# Altium footprint library Symbol.PcbLib: 206 footprints (part 2 of 15)
Each footprint in its own frame and in the unit in brackets; x right, y up, seen from the top. Pads: shape width x height; smd on the part's side, far side on the other; paste and mask are expansions set on the pad; w line width, h text height; cw(c..) or ccw(c..) is an arc to the next point about the centre after c.
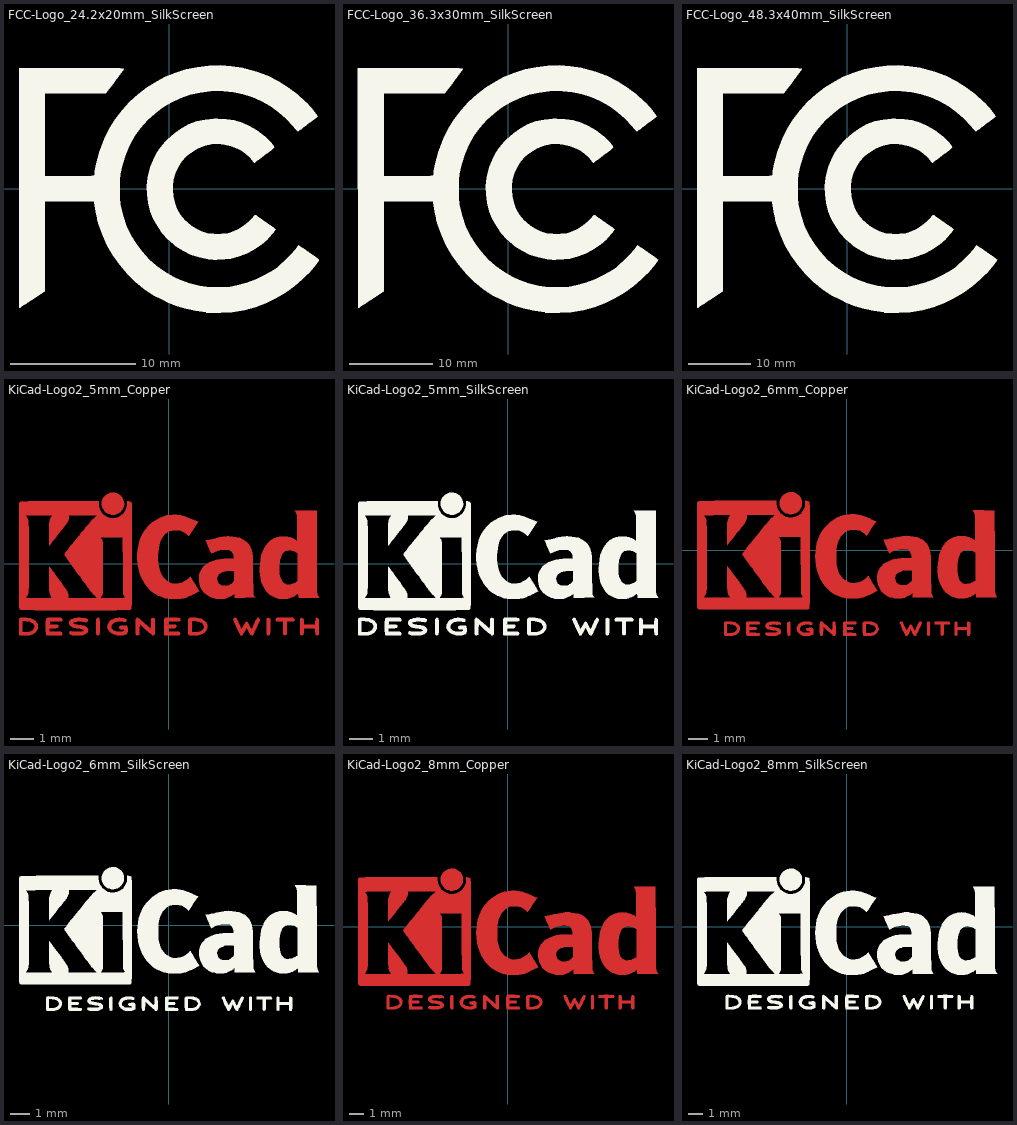
[diagram p1: the footprints below, top view; thin cyan lines are the x and y axes]

## FCC-Logo_24.2x20mm_SilkScreen [mm]
F.SilkS:
  drawing of 2 lines, arcs and shapes, not listed

## FCC-Logo_36.3x30mm_SilkScreen [mm]
F.SilkS:
  drawing of 2 lines, arcs and shapes, not listed

## FCC-Logo_48.3x40mm_SilkScreen [mm]
F.SilkS:
  drawing of 2 lines, arcs and shapes, not listed

## KiCad-Logo2_5mm_Copper [mm]
F.Cu:
  region: 4.189,-2.276 4.212,-2.291 4.239,-2.312 4.239,-2.634 4.239,-2.728 4.239,-2.802 4.238,-2.859 4.236,-2.901 4.234,-2.931 4.231,-2.951 4.227,-2.965 4.221,-2.974 4.217,-2.979 4.186,-3 4.15,-2.999 4.119,-2.981 4.092,-2.96 4.092,-2.312 4.119,-2.291 4.145,-2.275 4.166,-2.269
  region: -2.924,-2.292 -2.917,-2.299 -2.912,-2.309 -2.908,-2.324 -2.905,-2.346 -2.903,-2.378 -2.902,-2.422 -2.902,-2.482 -2.901,-2.56 -2.901,-2.636 -2.901,-2.73 -2.902,-2.804 -2.902,-2.86 -2.904,-2.902 -2.906,-2.932 -2.909,-2.952 -2.913,-2.965 -2.919,-2.974 -2.924,-2.98 -2.957,-3 -2.992,-2.998 -3.023,-2.977 -3.031,-2.968 -3.036,-2.959 -3.041,-2.945 -3.044,-2.924 -3.046,-2.895 -3.047,-2.853 -3.048,-2.796 -3.048,-2.722 -3.048,-2.638 -3.048,-2.324 -3.02,-2.297 -2.986,-2.273 -2.953,-2.273
  region: -2.273,2.973 -2.177,2.949 -2.09,2.906 -2.015,2.847 -1.954,2.772 -1.909,2.683 -1.883,2.586 -1.877,2.489 -1.892,2.395 -1.926,2.307 -1.977,2.228 -2.042,2.16 -2.121,2.106 -2.212,2.068 -2.263,2.056 -2.308,2.048 -2.342,2.045 -2.375,2.047 -2.415,2.054 -2.449,2.061 -2.542,2.092 -2.626,2.143 -2.698,2.213 -2.756,2.298 -2.77,2.326 -2.787,2.362 -2.797,2.392 -2.802,2.425 -2.805,2.466 -2.805,2.512 -2.801,2.596 -2.787,2.665 -2.762,2.726 -2.723,2.784 -2.684,2.829 -2.612,2.895 -2.537,2.94 -2.455,2.967 -2.377,2.977
  region: 4.963,-2.269 5.042,-2.27 5.103,-2.27 5.149,-2.272 5.182,-2.274 5.205,-2.277 5.221,-2.28 5.231,-2.285 5.236,-2.289 5.261,-2.321 5.265,-2.355 5.249,-2.386 5.238,-2.398 5.227,-2.406 5.211,-2.412 5.186,-2.414 5.147,-2.416 5.09,-2.416 4.933,-2.416 4.933,-2.687 4.933,-2.772 4.933,-2.838 4.932,-2.887 4.93,-2.922 4.927,-2.946 4.923,-2.962 4.918,-2.972 4.911,-2.98 4.878,-3 4.843,-2.999 4.812,-2.976 4.81,-2.973 4.802,-2.962 4.797,-2.95 4.793,-2.933 4.79,-2.908 4.788,-2.872 4.787,-2.822 4.787,-2.755 4.786,-2.68 4.786,-2.416 4.647,-2.416 4.587,-2.415 4.546,-2.414 4.519,-2.411 4.502,-2.405 4.49,-2.397 4.489,-2.395 4.473,-2.362 4.474,-2.324 4.493,-2.292 4.5,-2.285 4.51,-2.28 4.524,-2.276 4.545,-2.274 4.575,-2.272 4.618,-2.27 4.676,-2.269 4.75,-2.269 4.844,-2.269 4.864,-2.269
  region: 6.229,-2.275 6.26,-2.297 6.288,-2.324 6.288,-2.634 6.288,-2.726 6.287,-2.798 6.287,-2.853 6.285,-2.893 6.283,-2.922 6.28,-2.942 6.275,-2.956 6.269,-2.967 6.265,-2.973 6.234,-2.998 6.198,-3 6.166,-2.985 6.156,-2.976 6.148,-2.965 6.144,-2.946 6.142,-2.915 6.141,-2.869 6.141,-2.833 6.141,-2.698 5.644,-2.698 5.644,-2.821 5.644,-2.877 5.642,-2.915 5.638,-2.941 5.63,-2.96 5.621,-2.973 5.59,-2.998 5.555,-3.001 5.522,-2.983 5.513,-2.974 5.506,-2.962 5.502,-2.943 5.499,-2.914 5.498,-2.87 5.497,-2.808 5.497,-2.794 5.497,-2.678 5.497,-2.582 5.497,-2.504 5.497,-2.443 5.498,-2.396 5.5,-2.361 5.502,-2.335 5.505,-2.318 5.51,-2.306 5.515,-2.298 5.52,-2.292 5.552,-2.272 5.585,-2.275 5.617,-2.297 5.629,-2.311 5.638,-2.327 5.642,-2.35 5.644,-2.384 5.644,-2.436 5.644,-2.551 6.141,-2.551 6.141,-2.433 6.142,-2.378 6.144,-2.341 6.148,-2.317 6.155,-2.301 6.164,-2.292 6.196,-2.272
  region: 1.018,-2.269 1.147,-2.274 1.257,-2.287 1.349,-2.31 1.426,-2.343 1.489,-2.388 1.539,-2.444 1.58,-2.514 1.58,-2.515 1.605,-2.577 1.613,-2.633 1.606,-2.688 1.584,-2.751 1.579,-2.761 1.55,-2.817 1.517,-2.86 1.475,-2.897 1.417,-2.934 1.414,-2.936 1.364,-2.96 1.307,-2.978 1.24,-2.991 1.159,-2.999 1.06,-3.002 1.025,-3.002 0.86,-3.003 0.836,-2.973 0.829,-2.963 0.824,-2.952 0.82,-2.936 0.817,-2.913 0.815,-2.88 0.814,-2.856 0.814,-2.835 0.813,-2.774 0.813,-2.696 0.813,-2.634 0.813,-2.324 0.841,-2.297 0.853,-2.286 0.866,-2.278 0.885,-2.273 0.913,-2.27 0.955,-2.269 1.015,-2.269 hole: 0.971,-2.416 0.971,-2.856 1.065,-2.856 1.12,-2.854 1.176,-2.85 1.222,-2.844 1.225,-2.844 1.307,-2.822 1.371,-2.789 1.418,-2.743 1.451,-2.683 1.457,-2.667 1.463,-2.642 1.46,-2.618 1.448,-2.585 1.441,-2.569 1.418,-2.527 1.39,-2.497 1.359,-2.477 1.297,-2.45 1.218,-2.43 1.125,-2.419 1.058,-2.416
  region: -6.121,-2.269 -6.082,-2.269 -5.966,-2.272 -5.869,-2.281 -5.788,-2.295 -5.719,-2.317 -5.658,-2.347 -5.604,-2.387 -5.584,-2.404 -5.552,-2.443 -5.523,-2.497 -5.5,-2.557 -5.488,-2.615 -5.486,-2.636 -5.494,-2.695 -5.516,-2.759 -5.547,-2.82 -5.584,-2.868 -5.59,-2.874 -5.641,-2.915 -5.696,-2.947 -5.76,-2.971 -5.834,-2.988 -5.924,-2.998 -6.031,-3.002 -6.08,-3.003 -6.142,-3.003 -6.186,-3.001 -6.215,-2.999 -6.234,-2.994 -6.247,-2.987 -6.254,-2.98 -6.261,-2.973 -6.266,-2.963 -6.27,-2.948 -6.273,-2.926 -6.274,-2.894 -6.276,-2.85 -6.276,-2.79 -6.277,-2.712 -6.277,-2.636 -6.277,-2.535 -6.277,-2.454 -6.276,-2.416 -6.275,-2.392 -6.271,-2.345 -6.263,-2.312 -6.25,-2.29 -6.23,-2.277 -6.203,-2.27 -6.167,-2.269 hole: -6.054,-2.416 -6.13,-2.416 -6.13,-2.856 -6.037,-2.856 -5.981,-2.854 -5.922,-2.85 -5.873,-2.844 -5.872,-2.844 -5.792,-2.825 -5.731,-2.795 -5.684,-2.753 -5.655,-2.707 -5.636,-2.656 -5.638,-2.608 -5.659,-2.557 -5.7,-2.504 -5.758,-2.465 -5.833,-2.438 -5.883,-2.429 -5.939,-2.423 -6,-2.418 -6.051,-2.416
  region: -1.3,-2.273 -1.277,-2.287 -1.246,-2.31 -1.206,-2.342 -1.156,-2.386 -1.094,-2.441 -1.018,-2.509 -0.931,-2.588 -0.751,-2.752 -0.745,-2.532 -0.743,-2.456 -0.741,-2.4 -0.739,-2.36 -0.736,-2.332 -0.731,-2.314 -0.725,-2.303 -0.717,-2.294 -0.713,-2.291 -0.678,-2.272 -0.645,-2.274 -0.619,-2.291 -0.593,-2.312 -0.589,-2.627 -0.588,-2.72 -0.588,-2.793 -0.588,-2.848 -0.589,-2.889 -0.591,-2.919 -0.594,-2.939 -0.598,-2.953 -0.604,-2.964 -0.61,-2.972 -0.623,-2.988 -0.637,-2.999 -0.652,-3.003 -0.671,-2.999 -0.695,-2.987 -0.727,-2.965 -0.768,-2.932 -0.821,-2.887 -0.886,-2.829 -0.96,-2.762 -1.225,-2.521 -1.23,-2.741 -1.233,-2.816 -1.235,-2.872 -1.237,-2.913 -1.24,-2.94 -1.244,-2.958 -1.25,-2.969 -1.259,-2.978 -1.263,-2.981 -1.3,-3 -1.335,-2.997 -1.365,-2.973 -1.372,-2.963 -1.378,-2.952 -1.382,-2.936 -1.385,-2.913 -1.386,-2.88 -1.388,-2.835 -1.388,-2.774 -1.389,-2.694 -1.389,-2.636 -1.388,-2.544 -1.388,-2.473 -1.387,-2.418 -1.386,-2.378 -1.384,-2.349 -1.38,-2.329 -1.376,-2.315 -1.37,-2.305 -1.365,-2.299 -1.354,-2.285 -1.343,-2.274 -1.332,-2.268 -1.318,-2.267
  region: -1.95,-2.275 -1.882,-2.286 -1.829,-2.304 -1.795,-2.327 -1.785,-2.341 -1.776,-2.372 -1.782,-2.4 -1.802,-2.427 -1.834,-2.44 -1.879,-2.439 -1.914,-2.432 -1.992,-2.419 -2.072,-2.418 -2.162,-2.428 -2.186,-2.433 -2.269,-2.456 -2.334,-2.491 -2.38,-2.537 -2.407,-2.592 -2.413,-2.621 -2.409,-2.68 -2.386,-2.732 -2.345,-2.776 -2.288,-2.811 -2.219,-2.837 -2.138,-2.852 -2.048,-2.854 -1.951,-2.845 -1.945,-2.844 -1.907,-2.836 -1.885,-2.83 -1.876,-2.819 -1.874,-2.802 -1.874,-2.793 -1.874,-2.754 -1.942,-2.754 -2.003,-2.75 -2.044,-2.737 -2.068,-2.714 -2.077,-2.679 -2.077,-2.674 -2.072,-2.645 -2.054,-2.623 -2.022,-2.609 -1.972,-2.601 -1.923,-2.598 -1.852,-2.596 -1.801,-2.599 -1.766,-2.609 -1.744,-2.628 -1.733,-2.66 -1.728,-2.708 -1.727,-2.77 -1.729,-2.84 -1.733,-2.887 -1.74,-2.912 -1.741,-2.914 -1.78,-2.946 -1.837,-2.97 -1.909,-2.988 -1.991,-2.999 -2.081,-3.001 -2.175,-2.994 -2.23,-2.986 -2.316,-2.962 -2.396,-2.922 -2.463,-2.87 -2.473,-2.86 -2.506,-2.816 -2.536,-2.762 -2.559,-2.706 -2.572,-2.654 -2.574,-2.635 -2.567,-2.593 -2.55,-2.542 -2.524,-2.488 -2.495,-2.439 -2.469,-2.406 -2.408,-2.357 -2.329,-2.319 -2.235,-2.29 -2.129,-2.274 -2.032,-2.27
  region: 0.23,-2.269 0.307,-2.27 0.365,-2.272 0.408,-2.276 0.438,-2.282 0.457,-2.291 0.468,-2.303 0.473,-2.319 0.474,-2.339 0.474,-2.341 0.473,-2.364 0.468,-2.382 0.457,-2.395 0.437,-2.404 0.406,-2.41 0.36,-2.414 0.298,-2.417 0.216,-2.418 0.191,-2.418 -0.051,-2.421 -0.054,-2.486 -0.058,-2.551 0.111,-2.551 0.176,-2.552 0.223,-2.553 0.255,-2.555 0.276,-2.559 0.289,-2.565 0.299,-2.573 0.316,-2.607 0.316,-2.643 0.297,-2.674 0.294,-2.678 0.281,-2.686 0.263,-2.692 0.237,-2.695 0.197,-2.697 0.142,-2.698 0.106,-2.698 -0.056,-2.698 -0.056,-2.856 0.19,-2.856 0.272,-2.856 0.333,-2.857 0.379,-2.858 0.41,-2.86 0.431,-2.864 0.445,-2.868 0.453,-2.874 0.455,-2.877 0.472,-2.908 0.473,-2.944 0.46,-2.975 0.449,-2.985 0.438,-2.991 0.421,-2.995 0.396,-2.998 0.359,-3 0.308,-3.002 0.24,-3.003 0.153,-3.003 0.133,-3.003 0.045,-3.003 -0.024,-3.002 -0.075,-3.002 -0.113,-3 -0.139,-2.998 -0.156,-2.994 -0.167,-2.989 -0.176,-2.983 -0.18,-2.978 -0.187,-2.97 -0.192,-2.96 -0.196,-2.945 -0.199,-2.923 -0.201,-2.89 -0.202,-2.845 -0.203,-2.785 -0.203,-2.707 -0.203,-2.641 -0.203,-2.549 -0.203,-2.476 -0.202,-2.421 -0.201,-2.38 -0.198,-2.35 -0.195,-2.33 -0.191,-2.316 -0.185,-2.305 -0.18,-2.299 -0.156,-2.269 0.134,-2.269
  region: -4.713,-2.269 -4.643,-2.27 -4.591,-2.27 -4.553,-2.272 -4.526,-2.274 -4.508,-2.278 -4.496,-2.283 -4.487,-2.289 -4.484,-2.292 -4.464,-2.323 -4.46,-2.359 -4.473,-2.391 -4.48,-2.397 -4.489,-2.403 -4.505,-2.408 -4.529,-2.412 -4.566,-2.414 -4.617,-2.416 -4.685,-2.418 -4.748,-2.418 -4.995,-2.421 -4.999,-2.486 -5.002,-2.551 -4.834,-2.551 -4.761,-2.552 -4.708,-2.555 -4.671,-2.56 -4.647,-2.57 -4.634,-2.586 -4.629,-2.607 -4.628,-2.628 -4.631,-2.653 -4.64,-2.671 -4.659,-2.684 -4.691,-2.692 -4.738,-2.696 -4.804,-2.698 -4.84,-2.698 -5.001,-2.698 -5.001,-2.856 -4.753,-2.856 -4.671,-2.856 -4.609,-2.857 -4.564,-2.858 -4.532,-2.86 -4.511,-2.863 -4.496,-2.868 -4.487,-2.874 -4.482,-2.879 -4.465,-2.906 -4.459,-2.929 -4.467,-2.959 -4.482,-2.98 -4.49,-2.987 -4.5,-2.992 -4.515,-2.996 -4.538,-2.999 -4.571,-3.001 -4.618,-3.002 -4.68,-3.003 -4.761,-3.003 -4.803,-3.003 -4.894,-3.003 -4.964,-3.002 -5.017,-3.002 -5.056,-3 -5.083,-2.998 -5.101,-2.994 -5.113,-2.99 -5.122,-2.983 -5.125,-2.98 -5.132,-2.973 -5.137,-2.963 -5.141,-2.948 -5.144,-2.926 -5.146,-2.894 -5.147,-2.849 -5.147,-2.789 -5.148,-2.711 -5.148,-2.638 -5.148,-2.545 -5.147,-2.471 -5.147,-2.415 -5.146,-2.374 -5.144,-2.345 -5.141,-2.325 -5.136,-2.312 -5.131,-2.303 -5.123,-2.295 -5.122,-2.294 -5.113,-2.286 -5.103,-2.28 -5.089,-2.276 -5.067,-2.273 -5.036,-2.271 -4.993,-2.27 -4.934,-2.269 -4.857,-2.269 -4.802,-2.269
  region: 3.745,-2.271 3.764,-2.278 3.765,-2.278 3.792,-2.299 3.806,-2.32 3.809,-2.329 3.809,-2.342 3.805,-2.361 3.796,-2.387 3.782,-2.424 3.761,-2.473 3.732,-2.536 3.695,-2.617 3.675,-2.661 3.639,-2.74 3.604,-2.812 3.574,-2.876 3.548,-2.928 3.528,-2.965 3.516,-2.986 3.513,-2.989 3.482,-3.001 3.447,-3 3.419,-2.984 3.418,-2.983 3.407,-2.966 3.388,-2.933 3.364,-2.888 3.337,-2.836 3.327,-2.817 3.254,-2.67 3.174,-2.829 3.146,-2.884 3.119,-2.932 3.097,-2.969 3.081,-2.991 3.076,-2.996 3.034,-3.002 3,-2.989 2.99,-2.974 2.972,-2.943 2.949,-2.897 2.921,-2.839 2.89,-2.774 2.857,-2.704 2.824,-2.631 2.792,-2.56 2.763,-2.494 2.737,-2.435 2.718,-2.386 2.705,-2.352 2.7,-2.334 2.711,-2.311 2.733,-2.289 2.735,-2.288 2.762,-2.272 2.787,-2.273 2.796,-2.275 2.808,-2.282 2.82,-2.294 2.834,-2.315 2.852,-2.347 2.875,-2.393 2.905,-2.455 2.932,-2.512 2.962,-2.578 2.99,-2.638 3.013,-2.688 3.03,-2.725 3.039,-2.746 3.041,-2.749 3.047,-2.743 3.061,-2.721 3.081,-2.685 3.106,-2.638 3.115,-2.619 3.148,-2.554 3.174,-2.507 3.194,-2.474 3.21,-2.454 3.226,-2.443 3.242,-2.439 3.252,-2.438 3.271,-2.44 3.287,-2.447 3.303,-2.462 3.321,-2.487 3.344,-2.526 3.373,-2.581 3.389,-2.613 3.415,-2.663 3.437,-2.705 3.454,-2.734 3.464,-2.748 3.466,-2.749 3.472,-2.738 3.487,-2.709 3.508,-2.666 3.534,-2.612 3.564,-2.548 3.578,-2.517 3.616,-2.436 3.647,-2.374 3.672,-2.328 3.692,-2.297 3.71,-2.278 3.727,-2.271
  region: -3.692,-2.27 -3.617,-2.276 -3.547,-2.284 -3.487,-2.295 -3.44,-2.308 -3.41,-2.323 -3.406,-2.327 -3.39,-2.362 -3.395,-2.397 -3.419,-2.428 -3.421,-2.429 -3.435,-2.438 -3.45,-2.443 -3.471,-2.443 -3.503,-2.44 -3.552,-2.432 -3.556,-2.432 -3.629,-2.423 -3.707,-2.418 -3.786,-2.418 -3.859,-2.422 -3.922,-2.43 -3.968,-2.443 -3.971,-2.444 -4.005,-2.463 -4.017,-2.482 -4.008,-2.5 -3.978,-2.518 -3.929,-2.535 -3.861,-2.549 -3.816,-2.556 -3.721,-2.57 -3.647,-2.582 -3.588,-2.594 -3.542,-2.608 -3.506,-2.623 -3.476,-2.641 -3.449,-2.664 -3.428,-2.686 -3.403,-2.717 -3.391,-2.743 -3.387,-2.776 -3.387,-2.788 -3.39,-2.828 -3.401,-2.857 -3.421,-2.883 -3.462,-2.924 -3.508,-2.954 -3.562,-2.976 -3.627,-2.991 -3.707,-2.999 -3.805,-3.001 -3.821,-3.001 -3.887,-3 -3.952,-2.997 -4.009,-2.992 -4.052,-2.987 -4.055,-2.987 -4.098,-2.976 -4.134,-2.964 -4.154,-2.952 -4.173,-2.922 -4.174,-2.886 -4.158,-2.854 -4.154,-2.851 -4.139,-2.84 -4.12,-2.835 -4.091,-2.836 -4.056,-2.84 -4.016,-2.844 -3.96,-2.847 -3.895,-2.849 -3.828,-2.85 -3.81,-2.85 -3.742,-2.85 -3.692,-2.849 -3.657,-2.846 -3.63,-2.841 -3.609,-2.834 -3.596,-2.828 -3.568,-2.811 -3.55,-2.796 -3.547,-2.792 -3.553,-2.774 -3.579,-2.757 -3.624,-2.741 -3.687,-2.728 -3.705,-2.725 -3.801,-2.71 -3.878,-2.697 -3.938,-2.686 -3.984,-2.676 -4.021,-2.665 -4.049,-2.653 -4.073,-2.639 -4.096,-2.622 -4.119,-2.601 -4.127,-2.594 -4.155,-2.567 -4.17,-2.545 -4.176,-2.52 -4.177,-2.489 -4.167,-2.428 -4.136,-2.376 -4.085,-2.333 -4.013,-2.3 -3.962,-2.285 -3.907,-2.275 -3.841,-2.27 -3.768,-2.268
  region: 0.328,2.051 0.489,2.03 0.653,1.99 0.822,1.93 1,1.851 1.011,1.845 1.069,1.817 1.121,1.793 1.162,1.775 1.19,1.764 1.2,1.761 1.219,1.756 1.224,1.752 1.218,1.741 1.202,1.715 1.177,1.676 1.145,1.626 1.107,1.569 1.066,1.507 1.023,1.442 0.98,1.379 0.939,1.319 0.902,1.265 0.871,1.22 0.847,1.186 0.832,1.167 0.83,1.165 0.82,1.17 0.798,1.187 0.767,1.214 0.752,1.228 0.655,1.303 0.548,1.359 0.433,1.394 0.31,1.408 0.241,1.407 0.119,1.39 0.01,1.354 -0.087,1.299 -0.174,1.225 -0.249,1.131 -0.314,1.018 -0.351,0.931 -0.395,0.796 -0.428,0.648 -0.448,0.493 -0.458,0.333 -0.456,0.173 -0.443,0.016 -0.419,-0.133 -0.384,-0.271 -0.338,-0.395 -0.322,-0.429 -0.253,-0.543 -0.173,-0.64 -0.081,-0.718 0.02,-0.777 0.13,-0.816 0.247,-0.834 0.289,-0.835 0.41,-0.824 0.531,-0.791 0.649,-0.737 0.762,-0.663 0.854,-0.585 0.9,-0.54 1.081,-0.837 1.127,-0.911 1.168,-0.98 1.204,-1.039 1.233,-1.088 1.254,-1.124 1.265,-1.144 1.266,-1.147 1.258,-1.157 1.233,-1.174 1.193,-1.197 1.142,-1.225 1.084,-1.255 1.021,-1.287 0.958,-1.318 0.896,-1.346 0.839,-1.371 0.791,-1.391 0.768,-1.399 0.634,-1.437 0.496,-1.462 0.349,-1.475 0.222,-1.477 0.154,-1.476 0.088,-1.474 0.031,-1.471 -0.013,-1.468 -0.027,-1.466 -0.166,-1.438 -0.307,-1.392 -0.445,-1.334 -0.572,-1.264 -0.649,-1.211 -0.777,-1.103 -0.895,-0.977 -1.002,-0.835 -1.095,-0.681 -1.173,-0.518 -1.217,-0.401 -1.267,-0.217 -1.301,-0.023 -1.318,0.179 -1.318,0.382 -1.301,0.584 -1.268,0.781 -1.217,0.967 -1.214,0.978 -1.151,1.14 -1.074,1.288 -0.981,1.426 -0.868,1.558 -0.825,1.604 -0.688,1.728 -0.549,1.83 -0.403,1.912 -0.249,1.975 -0.084,2.02 0.011,2.038 0.17,2.054
  region: 6.187,0.528 6.187,0.293 6.187,0.08 6.187,-0.112 6.187,-0.285 6.187,-0.441 6.188,-0.579 6.188,-0.701 6.189,-0.808 6.19,-0.901 6.192,-0.982 6.194,-1.051 6.196,-1.11 6.198,-1.159 6.202,-1.2 6.205,-1.234 6.21,-1.262 6.214,-1.285 6.22,-1.304 6.226,-1.321 6.233,-1.335 6.24,-1.349 6.249,-1.364 6.254,-1.373 6.288,-1.434 5.43,-1.434 5.43,-1.338 5.429,-1.294 5.427,-1.261 5.424,-1.243 5.423,-1.242 5.412,-1.249 5.389,-1.267 5.366,-1.286 5.312,-1.327 5.242,-1.368 5.165,-1.405 5.088,-1.435 5.057,-1.445 4.989,-1.46 4.906,-1.47 4.816,-1.475 4.728,-1.474 4.649,-1.469 4.612,-1.463 4.473,-1.425 4.346,-1.367 4.23,-1.29 4.127,-1.195 4.036,-1.081 3.969,-0.97 3.914,-0.854 3.872,-0.734 3.842,-0.608 3.823,-0.472 3.815,-0.32 3.814,-0.243 3.816,-0.186 3.822,-0.03 3.844,0.166 3.88,0.345 3.93,0.506 3.994,0.65 4.071,0.777 4.163,0.886 4.268,0.977 4.314,1.008 4.415,1.064 4.518,1.104 4.628,1.128 4.749,1.138 4.842,1.137 4.971,1.126 5.084,1.104 5.183,1.07 5.271,1.024 5.32,0.99 5.349,0.968 5.371,0.953 5.379,0.948 5.381,0.959 5.382,0.99 5.383,1.037 5.384,1.1 5.384,1.173 5.384,1.256 5.384,1.344 5.384,1.436 5.383,1.528 5.382,1.618 5.381,1.704 5.38,1.781 5.379,1.848 5.377,1.902 5.375,1.94 5.375,1.947 5.367,2.018 5.356,2.073 5.338,2.12 5.312,2.166 5.305,2.176 5.281,2.213 6.186,2.213 hole: 5.07,0.553 4.988,0.549 4.915,0.53 4.883,0.515 4.826,0.472 4.777,0.415 4.735,0.342 4.701,0.252 4.672,0.141 4.671,0.135 4.66,0.073 4.653,-0.005 4.648,-0.093 4.645,-0.186 4.645,-0.279 4.648,-0.367 4.654,-0.444 4.662,-0.505 4.665,-0.517 4.697,-0.625 4.738,-0.712 4.79,-0.779 4.853,-0.826 4.926,-0.853 5.011,-0.862 5.107,-0.851 5.17,-0.835 5.219,-0.817 5.274,-0.791 5.314,-0.767 5.385,-0.721 5.385,0.429 5.317,0.473 5.239,0.514 5.155,0.541
  region: 139 vertices and 1 holes, not listed, extent 1.272,-1.475 3.612,1.14
  region: 172 vertices and 2 holes, not listed, extent -6.277,-1.942 -1.558,2.608

## KiCad-Logo2_5mm_SilkScreen [mm]
F.SilkS:
  drawing of 17 lines, arcs and shapes, not listed

## KiCad-Logo2_6mm_Copper [mm]
F.Cu:
  region: 4.2,-3.642 4.224,-3.657 4.251,-3.678 4.251,-4 4.251,-4.094 4.25,-4.168 4.249,-4.225 4.248,-4.267 4.246,-4.297 4.243,-4.317 4.239,-4.331 4.233,-4.341 4.229,-4.345 4.198,-4.366 4.162,-4.365 4.131,-4.347 4.104,-4.326 4.104,-3.678 4.131,-3.657 4.156,-3.641 4.177,-3.635
  region: -2.912,-3.658 -2.906,-3.665 -2.9,-3.675 -2.896,-3.69 -2.894,-3.712 -2.892,-3.744 -2.89,-3.789 -2.89,-3.849 -2.89,-3.926 -2.89,-4.002 -2.89,-4.096 -2.89,-4.17 -2.891,-4.226 -2.892,-4.268 -2.894,-4.298 -2.897,-4.318 -2.901,-4.332 -2.907,-4.341 -2.912,-4.346 -2.945,-4.366 -2.98,-4.364 -3.012,-4.343 -3.019,-4.335 -3.025,-4.325 -3.029,-4.311 -3.032,-4.291 -3.034,-4.261 -3.035,-4.219 -3.036,-4.162 -3.036,-4.088 -3.036,-4.004 -3.036,-3.691 -3.009,-3.663 -2.974,-3.64 -2.941,-3.639
  region: -2.726,2.964 -2.623,2.928 -2.527,2.871 -2.441,2.795 -2.369,2.697 -2.336,2.636 -2.308,2.55 -2.295,2.451 -2.296,2.35 -2.313,2.257 -2.359,2.145 -2.425,2.047 -2.509,1.966 -2.606,1.904 -2.714,1.862 -2.829,1.844 -2.948,1.849 -3.007,1.862 -3.121,1.906 -3.222,1.974 -3.309,2.063 -3.377,2.171 -3.383,2.183 -3.403,2.227 -3.415,2.265 -3.422,2.304 -3.425,2.355 -3.426,2.41 -3.425,2.476 -3.421,2.523 -3.413,2.562 -3.399,2.6 -3.382,2.639 -3.318,2.747 -3.238,2.834 -3.147,2.901 -3.047,2.948 -2.941,2.973 -2.833,2.979
  region: 4.975,-3.635 5.053,-3.636 5.115,-3.637 5.161,-3.638 5.194,-3.64 5.217,-3.643 5.232,-3.646 5.243,-3.651 5.248,-3.655 5.273,-3.688 5.276,-3.721 5.26,-3.752 5.25,-3.764 5.239,-3.773 5.223,-3.778 5.197,-3.781 5.159,-3.782 5.102,-3.782 5.091,-3.782 4.945,-3.782 4.945,-4.053 4.945,-4.138 4.944,-4.204 4.943,-4.253 4.942,-4.288 4.939,-4.312 4.935,-4.328 4.929,-4.338 4.922,-4.346 4.889,-4.366 4.855,-4.365 4.824,-4.342 4.822,-4.339 4.814,-4.329 4.808,-4.316 4.804,-4.299 4.801,-4.274 4.8,-4.238 4.799,-4.188 4.798,-4.122 4.798,-4.046 4.798,-3.782 4.659,-3.782 4.599,-3.782 4.558,-3.78 4.53,-3.777 4.513,-3.771 4.502,-3.763 4.501,-3.761 4.484,-3.728 4.486,-3.691 4.505,-3.658 4.512,-3.651 4.521,-3.646 4.535,-3.643 4.556,-3.64 4.587,-3.638 4.63,-3.636 4.687,-3.636 4.762,-3.635 4.856,-3.635 4.876,-3.635
  region: 6.241,-3.641 6.272,-3.663 6.3,-3.691 6.3,-4 6.3,-4.092 6.299,-4.164 6.298,-4.219 6.297,-4.26 6.295,-4.289 6.291,-4.309 6.287,-4.323 6.281,-4.333 6.276,-4.339 6.245,-4.364 6.21,-4.367 6.178,-4.351 6.167,-4.343 6.16,-4.331 6.156,-4.312 6.154,-4.281 6.153,-4.235 6.153,-4.199 6.153,-4.064 5.656,-4.064 5.656,-4.187 5.656,-4.243 5.654,-4.282 5.649,-4.308 5.642,-4.326 5.633,-4.339 5.602,-4.364 5.567,-4.367 5.533,-4.349 5.524,-4.34 5.518,-4.328 5.514,-4.309 5.511,-4.28 5.51,-4.236 5.509,-4.174 5.509,-4.16 5.509,-4.044 5.508,-3.948 5.508,-3.87 5.509,-3.809 5.51,-3.762 5.512,-3.727 5.514,-3.701 5.517,-3.684 5.521,-3.672 5.526,-3.664 5.532,-3.658 5.564,-3.638 5.597,-3.641 5.628,-3.663 5.641,-3.677 5.649,-3.693 5.654,-3.716 5.656,-3.75 5.656,-3.802 5.656,-3.917 6.153,-3.917 6.153,-3.799 6.153,-3.744 6.155,-3.707 6.16,-3.683 6.167,-3.668 6.175,-3.658 6.207,-3.638
  region: 1.03,-3.635 1.159,-3.64 1.269,-3.653 1.361,-3.676 1.438,-3.709 1.5,-3.754 1.551,-3.81 1.591,-3.88 1.592,-3.882 1.616,-3.944 1.625,-3.999 1.618,-4.054 1.595,-4.117 1.591,-4.127 1.562,-4.183 1.529,-4.227 1.487,-4.264 1.429,-4.3 1.426,-4.302 1.375,-4.326 1.318,-4.344 1.251,-4.357 1.17,-4.365 1.072,-4.368 1.037,-4.368 0.871,-4.369 0.848,-4.339 0.841,-4.33 0.836,-4.318 0.831,-4.302 0.829,-4.279 0.827,-4.247 0.826,-4.222 0.825,-4.201 0.825,-4.141 0.825,-4.062 0.825,-4 0.825,-3.691 0.852,-3.663 0.865,-3.652 0.878,-3.644 0.896,-3.639 0.924,-3.637 0.966,-3.636 1.026,-3.635 hole: 0.983,-3.782 0.983,-4.222 1.076,-4.222 1.131,-4.221 1.188,-4.216 1.234,-4.21 1.237,-4.21 1.319,-4.188 1.383,-4.155 1.43,-4.109 1.463,-4.049 1.469,-4.033 1.474,-4.009 1.472,-3.984 1.46,-3.952 1.453,-3.936 1.43,-3.893 1.402,-3.863 1.371,-3.843 1.309,-3.816 1.229,-3.796 1.137,-3.785 1.07,-3.782
  region: -6.11,-3.635 -6.07,-3.636 -5.954,-3.638 -5.858,-3.647 -5.776,-3.661 -5.707,-3.683 -5.647,-3.714 -5.592,-3.753 -5.572,-3.77 -5.54,-3.81 -5.511,-3.864 -5.488,-3.924 -5.476,-3.981 -5.475,-4.002 -5.483,-4.061 -5.504,-4.125 -5.535,-4.186 -5.572,-4.235 -5.578,-4.24 -5.629,-4.282 -5.684,-4.314 -5.748,-4.338 -5.823,-4.354 -5.912,-4.364 -6.019,-4.369 -6.068,-4.369 -6.13,-4.369 -6.174,-4.367 -6.203,-4.365 -6.222,-4.36 -6.235,-4.353 -6.242,-4.346 -6.249,-4.339 -6.254,-4.329 -6.258,-4.315 -6.261,-4.293 -6.263,-4.26 -6.264,-4.216 -6.265,-4.156 -6.265,-4.078 -6.265,-4.002 -6.265,-3.901 -6.265,-3.821 -6.264,-3.782 -6.264,-3.758 -6.259,-3.711 -6.251,-3.678 -6.238,-3.656 -6.218,-3.643 -6.191,-3.637 -6.155,-3.635 hole: -6.042,-3.782 -6.118,-3.782 -6.118,-4.222 -6.025,-4.222 -5.969,-4.221 -5.91,-4.216 -5.861,-4.211 -5.86,-4.21 -5.781,-4.191 -5.719,-4.161 -5.673,-4.119 -5.643,-4.073 -5.625,-4.022 -5.626,-3.974 -5.647,-3.923 -5.689,-3.87 -5.746,-3.831 -5.821,-3.805 -5.871,-3.795 -5.928,-3.789 -5.988,-3.784 -6.039,-3.782
  region: -1.288,-3.64 -1.265,-3.653 -1.234,-3.676 -1.194,-3.709 -1.144,-3.752 -1.082,-3.807 -1.006,-3.876 -0.92,-3.954 -0.739,-4.118 -0.733,-3.898 -0.731,-3.823 -0.729,-3.766 -0.727,-3.726 -0.724,-3.698 -0.72,-3.681 -0.714,-3.669 -0.705,-3.66 -0.701,-3.657 -0.667,-3.638 -0.634,-3.641 -0.608,-3.657 -0.581,-3.678 -0.578,-3.993 -0.577,-4.086 -0.576,-4.159 -0.576,-4.214 -0.577,-4.256 -0.579,-4.285 -0.582,-4.305 -0.586,-4.32 -0.592,-4.33 -0.598,-4.339 -0.612,-4.354 -0.625,-4.365 -0.64,-4.369 -0.659,-4.365 -0.684,-4.353 -0.716,-4.331 -0.757,-4.298 -0.809,-4.253 -0.874,-4.195 -0.948,-4.128 -1.213,-3.888 -1.219,-4.107 -1.221,-4.182 -1.223,-4.239 -1.225,-4.279 -1.228,-4.306 -1.233,-4.324 -1.239,-4.335 -1.247,-4.344 -1.251,-4.347 -1.288,-4.367 -1.323,-4.364 -1.353,-4.339 -1.36,-4.329 -1.366,-4.318 -1.37,-4.302 -1.373,-4.279 -1.375,-4.246 -1.376,-4.201 -1.377,-4.14 -1.377,-4.061 -1.377,-4.002 -1.377,-3.911 -1.376,-3.839 -1.376,-3.784 -1.374,-3.744 -1.372,-3.715 -1.368,-3.695 -1.364,-3.681 -1.358,-3.671 -1.353,-3.665 -1.342,-3.651 -1.332,-3.64 -1.32,-3.634 -1.306,-3.634
  region: -1.938,-3.641 -1.87,-3.652 -1.817,-3.67 -1.783,-3.694 -1.774,-3.707 -1.764,-3.738 -1.771,-3.767 -1.791,-3.793 -1.822,-3.806 -1.867,-3.805 -1.903,-3.798 -1.981,-3.785 -2.061,-3.784 -2.15,-3.794 -2.175,-3.799 -2.258,-3.822 -2.323,-3.857 -2.369,-3.903 -2.395,-3.959 -2.401,-3.988 -2.397,-4.046 -2.374,-4.098 -2.333,-4.142 -2.277,-4.177 -2.207,-4.203 -2.126,-4.218 -2.036,-4.221 -1.939,-4.211 -1.934,-4.21 -1.895,-4.203 -1.874,-4.196 -1.865,-4.185 -1.862,-4.168 -1.862,-4.159 -1.862,-4.121 -1.931,-4.121 -1.991,-4.117 -2.032,-4.103 -2.056,-4.08 -2.065,-4.045 -2.065,-4.041 -2.06,-4.011 -2.043,-3.99 -2.01,-3.976 -1.96,-3.967 -1.911,-3.964 -1.841,-3.963 -1.789,-3.965 -1.755,-3.975 -1.733,-3.995 -1.721,-4.027 -1.716,-4.074 -1.715,-4.136 -1.717,-4.206 -1.721,-4.253 -1.728,-4.278 -1.73,-4.28 -1.769,-4.312 -1.826,-4.337 -1.897,-4.355 -1.98,-4.365 -2.069,-4.367 -2.163,-4.36 -2.218,-4.352 -2.304,-4.328 -2.384,-4.288 -2.451,-4.236 -2.461,-4.226 -2.495,-4.182 -2.524,-4.128 -2.548,-4.072 -2.561,-4.02 -2.562,-4.001 -2.556,-3.96 -2.538,-3.908 -2.513,-3.855 -2.483,-3.805 -2.457,-3.773 -2.396,-3.724 -2.317,-3.685 -2.223,-3.657 -2.117,-3.64 -2.02,-3.636
  region: 0.242,-3.635 0.318,-3.636 0.377,-3.639 0.42,-3.642 0.45,-3.648 0.469,-3.657 0.48,-3.669 0.485,-3.685 0.486,-3.705 0.486,-3.708 0.485,-3.73 0.48,-3.748 0.469,-3.761 0.449,-3.77 0.418,-3.776 0.372,-3.78 0.31,-3.783 0.228,-3.784 0.203,-3.785 -0.039,-3.788 -0.042,-3.853 -0.046,-3.917 0.122,-3.917 0.188,-3.918 0.235,-3.919 0.267,-3.921 0.288,-3.925 0.301,-3.931 0.31,-3.94 0.311,-3.94 0.328,-3.973 0.327,-4.01 0.309,-4.041 0.305,-4.044 0.292,-4.052 0.275,-4.058 0.248,-4.061 0.209,-4.063 0.153,-4.064 0.118,-4.064 -0.045,-4.064 -0.045,-4.222 0.202,-4.222 0.283,-4.222 0.345,-4.223 0.39,-4.224 0.422,-4.226 0.443,-4.23 0.456,-4.234 0.465,-4.241 0.467,-4.243 0.483,-4.274 0.485,-4.31 0.471,-4.341 0.461,-4.351 0.45,-4.357 0.433,-4.361 0.407,-4.364 0.37,-4.367 0.319,-4.368 0.252,-4.369 0.165,-4.369 0.145,-4.369 0.057,-4.369 -0.012,-4.369 -0.064,-4.368 -0.101,-4.366 -0.127,-4.364 -0.144,-4.36 -0.156,-4.355 -0.164,-4.349 -0.168,-4.344 -0.175,-4.336 -0.181,-4.326 -0.185,-4.311 -0.187,-4.289 -0.189,-4.257 -0.191,-4.212 -0.191,-4.151 -0.191,-4.073 -0.191,-4.007 -0.191,-3.915 -0.191,-3.842 -0.19,-3.787 -0.189,-3.746 -0.187,-3.717 -0.183,-3.696 -0.179,-3.682 -0.173,-3.672 -0.168,-3.665 -0.145,-3.635 0.145,-3.635
  region: -4.701,-3.635 -4.632,-3.636 -4.579,-3.637 -4.541,-3.638 -4.514,-3.641 -4.496,-3.644 -4.484,-3.649 -4.475,-3.655 -4.472,-3.658 -4.452,-3.689 -4.449,-3.725 -4.462,-3.757 -4.468,-3.763 -4.478,-3.769 -4.493,-3.774 -4.518,-3.778 -4.554,-3.78 -4.605,-3.782 -4.673,-3.784 -4.736,-3.785 -4.984,-3.788 -4.987,-3.853 -4.99,-3.917 -4.822,-3.917 -4.749,-3.918 -4.696,-3.921 -4.659,-3.927 -4.636,-3.936 -4.623,-3.952 -4.618,-3.974 -4.617,-3.994 -4.619,-4.019 -4.629,-4.037 -4.648,-4.05 -4.679,-4.058 -4.727,-4.062 -4.792,-4.064 -4.828,-4.064 -4.989,-4.064 -4.989,-4.222 -4.741,-4.222 -4.66,-4.222 -4.598,-4.223 -4.552,-4.224 -4.52,-4.226 -4.499,-4.229 -4.485,-4.234 -4.475,-4.24 -4.47,-4.245 -4.453,-4.272 -4.447,-4.296 -4.455,-4.325 -4.47,-4.346 -4.478,-4.353 -4.488,-4.359 -4.503,-4.362 -4.526,-4.365 -4.559,-4.367 -4.606,-4.368 -4.668,-4.369 -4.75,-4.369 -4.792,-4.369 -4.882,-4.369 -4.952,-4.369 -5.005,-4.368 -5.044,-4.366 -5.071,-4.364 -5.09,-4.36 -5.102,-4.356 -5.11,-4.35 -5.113,-4.346 -5.12,-4.339 -5.125,-4.329 -5.129,-4.314 -5.132,-4.292 -5.134,-4.26 -5.135,-4.215 -5.136,-4.155 -5.136,-4.077 -5.136,-4.004 -5.136,-3.911 -5.136,-3.838 -5.135,-3.782 -5.134,-3.74 -5.132,-3.711 -5.129,-3.691 -5.125,-3.678 -5.119,-3.669 -5.112,-3.661 -5.11,-3.66 -5.101,-3.652 -5.091,-3.647 -5.077,-3.642 -5.056,-3.639 -5.025,-3.637 -4.981,-3.636 -4.922,-3.635 -4.845,-3.635 -4.79,-3.635
  region: 3.756,-3.637 3.776,-3.644 3.777,-3.645 3.803,-3.665 3.818,-3.686 3.821,-3.696 3.821,-3.709 3.817,-3.727 3.808,-3.753 3.793,-3.79 3.772,-3.839 3.744,-3.903 3.707,-3.983 3.687,-4.027 3.65,-4.106 3.616,-4.179 3.585,-4.242 3.559,-4.294 3.54,-4.331 3.527,-4.352 3.525,-4.355 3.494,-4.367 3.459,-4.366 3.431,-4.351 3.43,-4.349 3.418,-4.332 3.4,-4.299 3.376,-4.255 3.349,-4.202 3.339,-4.183 3.266,-4.036 3.186,-4.196 3.157,-4.251 3.131,-4.298 3.109,-4.335 3.093,-4.357 3.088,-4.362 3.046,-4.368 3.012,-4.355 3.001,-4.341 2.984,-4.309 2.96,-4.263 2.932,-4.205 2.901,-4.14 2.869,-4.07 2.835,-3.997 2.804,-3.927 2.774,-3.86 2.749,-3.801 2.729,-3.753 2.716,-3.718 2.712,-3.7 2.723,-3.678 2.745,-3.655 2.746,-3.654 2.774,-3.639 2.799,-3.639 2.808,-3.642 2.82,-3.648 2.832,-3.66 2.846,-3.681 2.864,-3.713 2.887,-3.759 2.917,-3.821 2.943,-3.878 2.974,-3.944 3.002,-4.004 3.025,-4.054 3.042,-4.091 3.051,-4.112 3.052,-4.115 3.058,-4.11 3.073,-4.087 3.093,-4.051 3.117,-4.004 3.127,-3.985 3.16,-3.92 3.185,-3.873 3.205,-3.84 3.222,-3.82 3.237,-3.809 3.253,-3.805 3.264,-3.805 3.282,-3.806 3.299,-3.813 3.315,-3.828 3.333,-3.853 3.355,-3.892 3.384,-3.948 3.4,-3.979 3.426,-4.029 3.449,-4.071 3.466,-4.1 3.476,-4.114 3.478,-4.115 3.484,-4.104 3.498,-4.075 3.519,-4.032 3.546,-3.978 3.575,-3.915 3.59,-3.883 3.628,-3.802 3.659,-3.74 3.683,-3.694 3.704,-3.663 3.722,-3.645 3.739,-3.637
  region: -3.68,-3.637 -3.605,-3.642 -3.536,-3.65 -3.475,-3.661 -3.428,-3.674 -3.399,-3.689 -3.394,-3.693 -3.378,-3.728 -3.383,-3.764 -3.408,-3.794 -3.409,-3.795 -3.423,-3.804 -3.438,-3.809 -3.459,-3.81 -3.492,-3.806 -3.54,-3.798 -3.544,-3.798 -3.617,-3.789 -3.696,-3.784 -3.774,-3.784 -3.848,-3.788 -3.91,-3.797 -3.957,-3.809 -3.96,-3.81 -3.993,-3.829 -4.005,-3.848 -3.996,-3.867 -3.966,-3.885 -3.917,-3.901 -3.849,-3.916 -3.804,-3.923 -3.71,-3.936 -3.635,-3.948 -3.576,-3.961 -3.53,-3.974 -3.494,-3.989 -3.464,-4.007 -3.438,-4.03 -3.417,-4.052 -3.391,-4.083 -3.379,-4.11 -3.375,-4.142 -3.375,-4.154 -3.378,-4.194 -3.389,-4.223 -3.41,-4.25 -3.451,-4.29 -3.496,-4.32 -3.55,-4.342 -3.615,-4.357 -3.695,-4.365 -3.793,-4.367 -3.81,-4.367 -3.875,-4.366 -3.94,-4.363 -3.998,-4.359 -4.04,-4.353 -4.044,-4.353 -4.086,-4.343 -4.122,-4.33 -4.142,-4.318 -4.161,-4.288 -4.163,-4.252 -4.146,-4.22 -4.143,-4.217 -4.128,-4.206 -4.109,-4.201 -4.079,-4.202 -4.044,-4.206 -4.004,-4.21 -3.949,-4.213 -3.884,-4.215 -3.816,-4.216 -3.798,-4.216 -3.73,-4.216 -3.681,-4.215 -3.645,-4.212 -3.619,-4.207 -3.597,-4.2 -3.584,-4.194 -3.556,-4.177 -3.538,-4.162 -3.536,-4.158 -3.541,-4.14 -3.568,-4.123 -3.613,-4.108 -3.675,-4.094 -3.693,-4.091 -3.789,-4.076 -3.866,-4.063 -3.926,-4.052 -3.973,-4.042 -4.009,-4.031 -4.038,-4.019 -4.062,-4.005 -4.084,-3.988 -4.108,-3.968 -4.116,-3.96 -4.144,-3.933 -4.158,-3.911 -4.164,-3.886 -4.165,-3.855 -4.155,-3.794 -4.124,-3.742 -4.073,-3.699 -4.002,-3.666 -3.951,-3.651 -3.895,-3.642 -3.829,-3.636 -3.756,-3.635
  region: 0.44,1.84 0.588,1.823 0.731,1.794 0.876,1.751 1.028,1.692 1.192,1.615 1.222,1.6 1.29,1.567 1.354,1.537 1.408,1.513 1.446,1.498 1.451,1.496 1.506,1.48 1.26,1.121 1.2,1.033 1.144,0.953 1.096,0.883 1.057,0.826 1.029,0.785 1.013,0.763 1.011,0.759 1,0.767 0.975,0.789 0.939,0.823 0.919,0.841 0.806,0.931 0.679,0.999 0.57,1.037 0.504,1.049 0.422,1.056 0.333,1.058 0.247,1.056 0.173,1.048 0.144,1.043 0.011,0.997 -0.108,0.927 -0.215,0.834 -0.308,0.716 -0.387,0.575 -0.454,0.411 -0.506,0.223 -0.537,0.062 -0.546,-0.009 -0.551,-0.101 -0.554,-0.207 -0.555,-0.32 -0.553,-0.435 -0.548,-0.544 -0.542,-0.64 -0.533,-0.718 -0.531,-0.73 -0.489,-0.923 -0.431,-1.094 -0.357,-1.243 -0.267,-1.372 -0.203,-1.442 -0.089,-1.536 0.037,-1.606 0.172,-1.651 0.313,-1.671 0.459,-1.666 0.608,-1.634 0.696,-1.603 0.818,-1.542 0.943,-1.453 1.013,-1.393 1.053,-1.358 1.084,-1.332 1.101,-1.32 1.104,-1.32 1.112,-1.332 1.132,-1.366 1.163,-1.416 1.203,-1.482 1.251,-1.56 1.304,-1.647 1.334,-1.696 1.56,-2.067 1.278,-2.207 1.176,-2.257 1.093,-2.296 1.025,-2.327 0.966,-2.351 0.911,-2.371 0.855,-2.388 0.794,-2.403 0.735,-2.417 0.682,-2.428 0.627,-2.437 0.565,-2.443 0.488,-2.447 0.394,-2.45 0.33,-2.451 0.238,-2.452 0.151,-2.451 0.073,-2.45 0.01,-2.447 -0.032,-2.444 -0.034,-2.443 -0.25,-2.396 -0.452,-2.326 -0.642,-2.231 -0.818,-2.112 -0.98,-1.969 -1.129,-1.803 -1.238,-1.654 -1.353,-1.461 -1.446,-1.256 -1.517,-1.038 -1.567,-0.807 -1.597,-0.56 -1.606,-0.309 -1.598,-0.066 -1.574,0.158 -1.533,0.368 -1.474,0.565 -1.396,0.756 -1.387,0.776 -1.284,0.96 -1.159,1.135 -1.013,1.298 -0.851,1.445 -0.676,1.572 -0.514,1.665 -0.349,1.738 -0.185,1.791 -0.013,1.825 0.171,1.842 0.281,1.844
  region: 119 vertices and 1 holes, not listed, extent 4.656,-2.455 7.676,2.043
  region: 125 vertices and 1 holes, not listed, extent 1.553,-2.453 4.407,0.74
  region: 197 vertices and 2 holes, not listed, extent -7.661,-3.02 -1.896,2.526

## KiCad-Logo2_6mm_SilkScreen [mm]
F.SilkS:
  drawing of 17 lines, arcs and shapes, not listed

## KiCad-Logo2_8mm_Copper [mm]
F.Cu:
  region: 5.752,-4.615 5.783,-4.635 5.819,-4.664 5.819,-5.092 5.819,-5.217 5.818,-5.316 5.817,-5.391 5.815,-5.447 5.812,-5.487 5.808,-5.515 5.802,-5.533 5.795,-5.545 5.79,-5.552 5.748,-5.579 5.701,-5.578 5.659,-5.555 5.623,-5.526 5.623,-4.664 5.659,-4.635 5.693,-4.614 5.721,-4.606
  region: -3.718,-4.636 -3.709,-4.647 -3.702,-4.66 -3.697,-4.679 -3.693,-4.708 -3.69,-4.751 -3.689,-4.811 -3.688,-4.89 -3.688,-4.994 -3.688,-5.095 -3.688,-5.22 -3.688,-5.318 -3.689,-5.393 -3.691,-5.449 -3.694,-5.489 -3.698,-5.516 -3.703,-5.533 -3.711,-5.545 -3.718,-5.553 -3.762,-5.579 -3.808,-5.577 -3.85,-5.549 -3.86,-5.537 -3.867,-5.524 -3.873,-5.506 -3.877,-5.479 -3.88,-5.439 -3.882,-5.383 -3.883,-5.308 -3.883,-5.209 -3.883,-5.097 -3.883,-4.68 -3.846,-4.643 -3.801,-4.612 -3.756,-4.611
  region: -3.602,3.916 -3.466,3.869 -3.339,3.794 -3.226,3.693 -3.13,3.564 -3.087,3.483 -3.05,3.37 -3.032,3.239 -3.034,3.105 -3.056,2.983 -3.117,2.834 -3.205,2.705 -3.315,2.598 -3.444,2.516 -3.587,2.461 -3.739,2.436 -3.896,2.444 -3.973,2.46 -4.124,2.519 -4.258,2.608 -4.372,2.726 -4.463,2.869 -4.47,2.885 -4.497,2.943 -4.513,2.993 -4.522,3.045 -4.526,3.111 -4.527,3.184 -4.526,3.271 -4.521,3.334 -4.511,3.385 -4.492,3.436 -4.469,3.487 -4.384,3.63 -4.279,3.745 -4.158,3.834 -4.026,3.895 -3.886,3.929 -3.744,3.936
  region: 6.783,-4.607 6.887,-4.607 6.969,-4.608 7.03,-4.61 7.074,-4.613 7.105,-4.616 7.126,-4.621 7.139,-4.628 7.146,-4.633 7.18,-4.676 7.184,-4.721 7.163,-4.762 7.149,-4.778 7.134,-4.789 7.113,-4.796 7.079,-4.8 7.027,-4.801 6.952,-4.802 6.743,-4.802 6.743,-5.163 6.743,-5.276 6.742,-5.364 6.741,-5.429 6.739,-5.475 6.735,-5.507 6.729,-5.528 6.722,-5.543 6.713,-5.553 6.669,-5.58 6.623,-5.578 6.582,-5.547 6.579,-5.544 6.569,-5.53 6.561,-5.513 6.556,-5.49 6.552,-5.457 6.55,-5.409 6.548,-5.343 6.548,-5.254 6.548,-5.153 6.548,-4.802 6.362,-4.802 6.282,-4.801 6.227,-4.799 6.191,-4.795 6.168,-4.787 6.153,-4.776 6.152,-4.774 6.13,-4.73 6.132,-4.68 6.157,-4.636 6.167,-4.628 6.179,-4.621 6.198,-4.616 6.226,-4.612 6.267,-4.61 6.324,-4.608 6.4,-4.607 6.499,-4.607 6.624,-4.606 6.651,-4.606
  region: 8.468,-4.614 8.51,-4.643 8.547,-4.68 8.547,-5.092 8.546,-5.214 8.546,-5.31 8.545,-5.384 8.543,-5.438 8.54,-5.476 8.536,-5.503 8.529,-5.521 8.522,-5.535 8.515,-5.544 8.474,-5.576 8.427,-5.58 8.385,-5.56 8.37,-5.548 8.361,-5.532 8.355,-5.507 8.352,-5.466 8.351,-5.405 8.351,-5.357 8.351,-5.178 7.69,-5.178 7.69,-5.341 7.689,-5.416 7.686,-5.467 7.681,-5.501 7.671,-5.526 7.659,-5.544 7.618,-5.576 7.571,-5.58 7.526,-5.557 7.514,-5.545 7.506,-5.529 7.5,-5.504 7.497,-5.465 7.495,-5.406 7.494,-5.324 7.494,-5.305 7.493,-5.15 7.493,-5.023 7.493,-4.919 7.494,-4.838 7.495,-4.775 7.497,-4.728 7.501,-4.695 7.505,-4.671 7.51,-4.656 7.517,-4.645 7.525,-4.636 7.567,-4.61 7.611,-4.614 7.653,-4.643 7.67,-4.662 7.681,-4.684 7.687,-4.714 7.689,-4.76 7.69,-4.828 7.69,-4.982 8.351,-4.982 8.351,-4.824 8.352,-4.752 8.355,-4.703 8.36,-4.671 8.37,-4.649 8.381,-4.636 8.424,-4.61
  region: 1.531,-4.607 1.703,-4.612 1.849,-4.63 1.971,-4.661 2.073,-4.705 2.157,-4.764 2.224,-4.84 2.278,-4.932 2.279,-4.934 2.311,-5.017 2.323,-5.09 2.314,-5.164 2.283,-5.248 2.278,-5.261 2.239,-5.336 2.195,-5.394 2.139,-5.443 2.062,-5.492 2.057,-5.494 1.99,-5.527 1.915,-5.551 1.825,-5.567 1.718,-5.578 1.586,-5.582 1.54,-5.583 1.319,-5.583 1.288,-5.544 1.279,-5.531 1.272,-5.516 1.266,-5.494 1.263,-5.464 1.26,-5.42 1.259,-5.388 1.258,-5.36 1.258,-5.279 1.257,-5.174 1.257,-5.092 1.257,-4.68 1.294,-4.643 1.31,-4.628 1.328,-4.618 1.353,-4.612 1.39,-4.608 1.446,-4.607 1.526,-4.607 hole: 1.468,-4.802 1.468,-5.388 1.593,-5.388 1.666,-5.386 1.741,-5.38 1.802,-5.372 1.806,-5.372 1.916,-5.342 2,-5.298 2.064,-5.237 2.107,-5.157 2.115,-5.136 2.122,-5.103 2.119,-5.071 2.103,-5.028 2.094,-5.006 2.063,-4.95 2.025,-4.91 1.984,-4.883 1.902,-4.847 1.796,-4.821 1.673,-4.806 1.584,-4.802
  region: -7.975,-4.606 -7.922,-4.607 -7.768,-4.611 -7.639,-4.622 -7.531,-4.641 -7.439,-4.67 -7.358,-4.711 -7.286,-4.763 -7.259,-4.785 -7.216,-4.838 -7.177,-4.91 -7.147,-4.99 -7.131,-5.067 -7.129,-5.095 -7.14,-5.173 -7.169,-5.259 -7.21,-5.34 -7.259,-5.404 -7.267,-5.412 -7.335,-5.467 -7.409,-5.51 -7.493,-5.541 -7.593,-5.564 -7.712,-5.577 -7.854,-5.583 -7.919,-5.583 -8.002,-5.583 -8.06,-5.581 -8.099,-5.578 -8.125,-5.571 -8.142,-5.562 -8.151,-5.553 -8.16,-5.543 -8.167,-5.53 -8.172,-5.511 -8.176,-5.481 -8.179,-5.439 -8.18,-5.379 -8.181,-5.299 -8.181,-5.196 -8.181,-5.095 -8.182,-4.961 -8.182,-4.853 -8.18,-4.802 -8.18,-4.77 -8.174,-4.708 -8.163,-4.663 -8.145,-4.634 -8.119,-4.617 -8.083,-4.608 -8.036,-4.606 hole: -7.885,-4.802 -7.986,-4.802 -7.986,-5.388 -7.862,-5.388 -7.787,-5.386 -7.709,-5.38 -7.644,-5.372 -7.642,-5.372 -7.537,-5.347 -7.455,-5.307 -7.393,-5.251 -7.353,-5.189 -7.329,-5.122 -7.331,-5.058 -7.359,-4.99 -7.414,-4.919 -7.491,-4.867 -7.59,-4.832 -7.657,-4.819 -7.732,-4.811 -7.812,-4.804 -7.881,-4.802
  region: -1.556,-4.612 -1.524,-4.631 -1.483,-4.661 -1.431,-4.704 -1.364,-4.762 -1.281,-4.835 -1.18,-4.926 -1.065,-5.031 -0.824,-5.249 -0.817,-4.957 -0.814,-4.856 -0.812,-4.781 -0.808,-4.727 -0.804,-4.691 -0.799,-4.667 -0.79,-4.651 -0.78,-4.64 -0.774,-4.635 -0.728,-4.61 -0.684,-4.614 -0.649,-4.635 -0.614,-4.664 -0.61,-5.083 -0.608,-5.206 -0.608,-5.303 -0.608,-5.377 -0.609,-5.432 -0.612,-5.471 -0.616,-5.499 -0.621,-5.518 -0.629,-5.532 -0.637,-5.543 -0.655,-5.564 -0.673,-5.578 -0.693,-5.583 -0.718,-5.578 -0.751,-5.562 -0.793,-5.533 -0.848,-5.489 -0.917,-5.429 -1.004,-5.352 -1.102,-5.263 -1.456,-4.942 -1.463,-5.234 -1.466,-5.335 -1.469,-5.41 -1.472,-5.463 -1.476,-5.5 -1.482,-5.523 -1.49,-5.539 -1.501,-5.55 -1.506,-5.555 -1.555,-5.58 -1.602,-5.576 -1.642,-5.544 -1.652,-5.531 -1.659,-5.515 -1.664,-5.494 -1.668,-5.464 -1.671,-5.42 -1.672,-5.359 -1.673,-5.278 -1.674,-5.173 -1.674,-5.095 -1.673,-4.973 -1.673,-4.878 -1.672,-4.805 -1.67,-4.751 -1.667,-4.713 -1.662,-4.686 -1.656,-4.668 -1.648,-4.654 -1.642,-4.646 -1.627,-4.627 -1.613,-4.613 -1.598,-4.605 -1.58,-4.604
  region: -2.421,-4.614 -2.33,-4.629 -2.26,-4.653 -2.214,-4.684 -2.202,-4.702 -2.189,-4.744 -2.198,-4.781 -2.225,-4.817 -2.266,-4.834 -2.327,-4.832 -2.374,-4.823 -2.478,-4.806 -2.584,-4.804 -2.703,-4.818 -2.736,-4.824 -2.846,-4.855 -2.933,-4.902 -2.994,-4.963 -3.03,-5.037 -3.037,-5.075 -3.032,-5.154 -3.001,-5.223 -2.947,-5.281 -2.872,-5.328 -2.779,-5.362 -2.671,-5.382 -2.551,-5.386 -2.422,-5.373 -2.415,-5.371 -2.364,-5.362 -2.335,-5.353 -2.323,-5.339 -2.32,-5.316 -2.32,-5.304 -2.32,-5.253 -2.411,-5.253 -2.492,-5.247 -2.546,-5.23 -2.578,-5.198 -2.59,-5.152 -2.59,-5.146 -2.583,-5.106 -2.56,-5.078 -2.517,-5.059 -2.45,-5.049 -2.385,-5.045 -2.291,-5.042 -2.223,-5.046 -2.176,-5.059 -2.147,-5.085 -2.132,-5.127 -2.126,-5.191 -2.124,-5.273 -2.126,-5.366 -2.132,-5.429 -2.141,-5.462 -2.143,-5.465 -2.195,-5.507 -2.271,-5.54 -2.366,-5.564 -2.476,-5.578 -2.596,-5.58 -2.72,-5.572 -2.793,-5.561 -2.908,-5.528 -3.015,-5.475 -3.104,-5.406 -3.118,-5.393 -3.162,-5.335 -3.202,-5.263 -3.232,-5.188 -3.25,-5.119 -3.252,-5.093 -3.243,-5.038 -3.219,-4.97 -3.186,-4.898 -3.146,-4.833 -3.112,-4.789 -3.031,-4.724 -2.926,-4.672 -2.801,-4.635 -2.66,-4.613 -2.53,-4.608
  region: 0.482,-4.607 0.583,-4.608 0.661,-4.611 0.719,-4.616 0.758,-4.624 0.784,-4.636 0.798,-4.652 0.805,-4.673 0.806,-4.699 0.806,-4.703 0.805,-4.733 0.799,-4.756 0.784,-4.774 0.757,-4.786 0.715,-4.794 0.655,-4.8 0.572,-4.803 0.463,-4.805 0.43,-4.805 0.107,-4.809 0.103,-4.896 0.098,-4.982 0.322,-4.982 0.41,-4.982 0.472,-4.984 0.515,-4.987 0.542,-4.992 0.56,-5 0.573,-5.012 0.596,-5.056 0.595,-5.105 0.571,-5.146 0.566,-5.15 0.549,-5.161 0.525,-5.169 0.49,-5.174 0.438,-5.176 0.364,-5.177 0.316,-5.178 0.1,-5.178 0.1,-5.388 0.428,-5.388 0.537,-5.388 0.619,-5.389 0.679,-5.391 0.721,-5.393 0.749,-5.398 0.767,-5.404 0.778,-5.412 0.781,-5.415 0.803,-5.457 0.805,-5.505 0.787,-5.547 0.773,-5.56 0.758,-5.567 0.736,-5.573 0.702,-5.577 0.653,-5.58 0.585,-5.582 0.495,-5.583 0.379,-5.583 0.353,-5.583 0.235,-5.583 0.143,-5.583 0.075,-5.582 0.025,-5.58 -0.01,-5.577 -0.033,-5.572 -0.048,-5.565 -0.059,-5.557 -0.065,-5.55 -0.074,-5.539 -0.081,-5.526 -0.086,-5.506 -0.09,-5.477 -0.093,-5.434 -0.094,-5.374 -0.095,-5.294 -0.095,-5.189 -0.095,-5.102 -0.095,-4.979 -0.095,-4.882 -0.094,-4.808 -0.092,-4.754 -0.089,-4.715 -0.085,-4.688 -0.079,-4.669 -0.071,-4.655 -0.064,-4.646 -0.033,-4.606 0.353,-4.606
  region: -6.099,-4.607 -6.007,-4.607 -5.937,-4.608 -5.886,-4.61 -5.851,-4.614 -5.827,-4.618 -5.811,-4.625 -5.799,-4.633 -5.795,-4.637 -5.768,-4.678 -5.763,-4.726 -5.781,-4.768 -5.789,-4.777 -5.802,-4.785 -5.823,-4.791 -5.855,-4.796 -5.903,-4.8 -5.971,-4.802 -6.062,-4.804 -6.146,-4.805 -6.476,-4.809 -6.485,-4.982 -6.261,-4.982 -6.164,-4.983 -6.092,-4.986 -6.043,-4.994 -6.012,-5.007 -5.995,-5.028 -5.988,-5.057 -5.987,-5.084 -5.99,-5.117 -6.003,-5.141 -6.028,-5.158 -6.071,-5.169 -6.133,-5.175 -6.221,-5.177 -6.268,-5.178 -6.483,-5.178 -6.483,-5.388 -6.152,-5.388 -6.044,-5.388 -5.962,-5.389 -5.901,-5.39 -5.859,-5.393 -5.83,-5.397 -5.811,-5.404 -5.798,-5.412 -5.792,-5.418 -5.769,-5.454 -5.762,-5.486 -5.772,-5.525 -5.792,-5.553 -5.802,-5.562 -5.816,-5.569 -5.836,-5.575 -5.866,-5.578 -5.911,-5.581 -5.973,-5.582 -6.056,-5.583 -6.164,-5.583 -6.22,-5.583 -6.34,-5.583 -6.434,-5.583 -6.505,-5.582 -6.556,-5.58 -6.592,-5.576 -6.617,-5.572 -6.633,-5.566 -6.644,-5.558 -6.648,-5.553 -6.657,-5.543 -6.664,-5.53 -6.669,-5.511 -6.673,-5.481 -6.676,-5.438 -6.677,-5.379 -6.678,-5.298 -6.678,-5.194 -6.678,-5.097 -6.678,-4.973 -6.678,-4.876 -6.677,-4.801 -6.676,-4.746 -6.673,-4.707 -6.669,-4.681 -6.663,-4.663 -6.656,-4.651 -6.646,-4.641 -6.644,-4.639 -6.632,-4.629 -6.619,-4.622 -6.6,-4.616 -6.571,-4.612 -6.53,-4.609 -6.472,-4.607 -6.394,-4.607 -6.291,-4.606 -6.218,-4.606
  region: 5.161,-4.609 5.187,-4.618 5.188,-4.619 5.223,-4.646 5.243,-4.674 5.246,-4.687 5.246,-4.704 5.241,-4.729 5.229,-4.764 5.21,-4.812 5.182,-4.878 5.144,-4.962 5.095,-5.07 5.068,-5.129 5.019,-5.233 4.974,-5.33 4.933,-5.414 4.898,-5.483 4.872,-5.533 4.856,-5.561 4.852,-5.565 4.811,-5.581 4.764,-5.579 4.727,-5.559 4.725,-5.557 4.711,-5.534 4.686,-5.491 4.654,-5.431 4.618,-5.361 4.605,-5.336 4.507,-5.14 4.401,-5.352 4.363,-5.426 4.328,-5.489 4.298,-5.538 4.277,-5.568 4.27,-5.574 4.215,-5.582 4.169,-5.565 4.155,-5.546 4.132,-5.503 4.101,-5.442 4.064,-5.366 4.022,-5.278 3.978,-5.185 3.934,-5.089 3.892,-4.994 3.853,-4.906 3.82,-4.827 3.793,-4.763 3.776,-4.717 3.77,-4.693 3.77,-4.692 3.785,-4.663 3.814,-4.633 3.816,-4.631 3.852,-4.611 3.885,-4.611 3.898,-4.615 3.913,-4.623 3.929,-4.64 3.949,-4.667 3.973,-4.71 4.003,-4.771 4.043,-4.854 4.078,-4.93 4.119,-5.018 4.156,-5.097 4.186,-5.164 4.209,-5.213 4.221,-5.241 4.223,-5.245 4.231,-5.238 4.25,-5.208 4.277,-5.16 4.31,-5.098 4.323,-5.072 4.366,-4.986 4.4,-4.923 4.427,-4.88 4.449,-4.853 4.469,-4.838 4.491,-4.832 4.505,-4.832 4.529,-4.834 4.551,-4.843 4.573,-4.863 4.597,-4.897 4.627,-4.949 4.665,-5.022 4.687,-5.064 4.721,-5.131 4.751,-5.186 4.774,-5.226 4.787,-5.244 4.789,-5.245 4.798,-5.23 4.817,-5.193 4.845,-5.135 4.88,-5.062 4.919,-4.978 4.939,-4.937 4.99,-4.829 5.03,-4.746 5.063,-4.685 5.091,-4.644 5.115,-4.619 5.137,-4.608
  region: -4.74,-4.608 -4.64,-4.615 -4.548,-4.626 -4.467,-4.64 -4.405,-4.658 -4.365,-4.678 -4.359,-4.684 -4.338,-4.73 -4.345,-4.777 -4.377,-4.818 -4.379,-4.819 -4.398,-4.831 -4.418,-4.838 -4.446,-4.839 -4.489,-4.834 -4.554,-4.824 -4.559,-4.823 -4.656,-4.811 -4.761,-4.805 -4.865,-4.805 -4.963,-4.81 -5.047,-4.821 -5.108,-4.837 -5.112,-4.839 -5.157,-4.864 -5.173,-4.889 -5.161,-4.914 -5.121,-4.938 -5.056,-4.96 -4.965,-4.98 -4.905,-4.989 -4.78,-5.007 -4.68,-5.023 -4.601,-5.04 -4.54,-5.057 -4.492,-5.078 -4.453,-5.102 -4.417,-5.132 -4.389,-5.161 -4.356,-5.203 -4.339,-5.238 -4.334,-5.281 -4.334,-5.297 -4.338,-5.35 -4.353,-5.39 -4.38,-5.424 -4.434,-5.478 -4.495,-5.519 -4.567,-5.548 -4.653,-5.567 -4.76,-5.578 -4.891,-5.581 -4.912,-5.581 -5,-5.579 -5.086,-5.575 -5.163,-5.569 -5.22,-5.562 -5.224,-5.562 -5.281,-5.548 -5.329,-5.531 -5.356,-5.516 -5.381,-5.475 -5.383,-5.428 -5.361,-5.385 -5.356,-5.381 -5.336,-5.366 -5.311,-5.36 -5.272,-5.361 -5.224,-5.367 -5.172,-5.372 -5.098,-5.376 -5.011,-5.379 -4.921,-5.38 -4.897,-5.38 -4.807,-5.38 -4.741,-5.378 -4.693,-5.374 -4.658,-5.368 -4.63,-5.358 -4.613,-5.35 -4.575,-5.328 -4.551,-5.308 -4.548,-5.302 -4.555,-5.279 -4.59,-5.256 -4.65,-5.235 -4.733,-5.217 -4.758,-5.213 -4.886,-5.193 -4.987,-5.176 -5.068,-5.162 -5.13,-5.148 -5.178,-5.134 -5.216,-5.118 -5.248,-5.099 -5.278,-5.077 -5.309,-5.049 -5.32,-5.039 -5.357,-5.003 -5.377,-4.974 -5.385,-4.941 -5.386,-4.899 -5.372,-4.818 -5.331,-4.748 -5.263,-4.691 -5.168,-4.647 -5.1,-4.628 -5.027,-4.615 -4.939,-4.608 -4.841,-4.605
  region: 0.581,2.431 0.777,2.409 0.967,2.371 1.158,2.314 1.358,2.236 1.576,2.135 1.615,2.115 1.705,2.071 1.79,2.031 1.861,1.999 1.91,1.979 1.918,1.977 1.991,1.955 1.665,1.481 1.585,1.365 1.512,1.259 1.449,1.167 1.397,1.092 1.359,1.038 1.339,1.008 1.335,1.003 1.322,1.013 1.288,1.043 1.24,1.087 1.214,1.112 1.065,1.231 0.897,1.321 0.753,1.37 0.666,1.386 0.558,1.395 0.44,1.398 0.326,1.395 0.229,1.385 0.19,1.378 0.015,1.317 -0.143,1.225 -0.284,1.102 -0.407,0.947 -0.512,0.76 -0.599,0.543 -0.669,0.294 -0.71,0.082 -0.721,-0.012 -0.728,-0.134 -0.732,-0.273 -0.733,-0.423 -0.73,-0.575 -0.725,-0.718 -0.716,-0.846 -0.704,-0.949 -0.702,-0.964 -0.646,-1.22 -0.569,-1.445 -0.472,-1.643 -0.353,-1.813 -0.269,-1.905 -0.117,-2.03 0.049,-2.123 0.227,-2.182 0.414,-2.209 0.607,-2.201 0.803,-2.16 0.92,-2.119 1.08,-2.037 1.246,-1.92 1.339,-1.84 1.391,-1.794 1.432,-1.761 1.455,-1.745 1.458,-1.744 1.469,-1.761 1.496,-1.804 1.537,-1.872 1.59,-1.959 1.653,-2.062 1.723,-2.177 1.762,-2.241 2.061,-2.732 1.688,-2.916 1.553,-2.982 1.444,-3.034 1.354,-3.075 1.276,-3.107 1.203,-3.133 1.13,-3.155 1.049,-3.176 0.971,-3.195 0.901,-3.209 0.829,-3.22 0.746,-3.228 0.645,-3.233 0.52,-3.237 0.435,-3.239 0.315,-3.24 0.199,-3.239 0.096,-3.237 0.013,-3.234 -0.042,-3.229 -0.045,-3.228 -0.33,-3.167 -0.598,-3.073 -0.848,-2.948 -1.08,-2.791 -1.295,-2.602 -1.492,-2.382 -1.635,-2.186 -1.787,-1.93 -1.91,-1.659 -2.005,-1.372 -2.071,-1.066 -2.11,-0.74 -2.122,-0.408 -2.112,-0.087 -2.08,0.209 -2.026,0.486 -1.948,0.747 -1.845,0.999 -1.833,1.025 -1.697,1.268 -1.531,1.5 -1.338,1.716 -1.125,1.91 -0.894,2.077 -0.679,2.2 -0.462,2.297 -0.244,2.366 -0.018,2.412 0.226,2.434 0.372,2.437
  region: 118 vertices and 1 holes, not listed, extent 6.153,-3.245 10.144,2.7
  region: 125 vertices and 1 holes, not listed, extent 2.052,-3.241 5.824,0.977
  region: 197 vertices and 2 holes, not listed, extent -10.124,-3.991 -2.506,3.338

## KiCad-Logo2_8mm_SilkScreen [mm]
F.SilkS:
  drawing of 17 lines, arcs and shapes, not listed